# Altium footprint library PCB - LEADLESS - MLPAK - NEXPERIA MLPAK33 SOT8002-1.PCBLIB: 1 footprints
Each footprint in its own frame and in the unit in brackets; x right, y up, seen from the top. Pads: shape width x height; smd on the part's side, far side on the other; paste and mask are expansions set on the pad; w line width, h text height; cw(c..) or ccw(c..) is an arc to the next point about the centre after c.
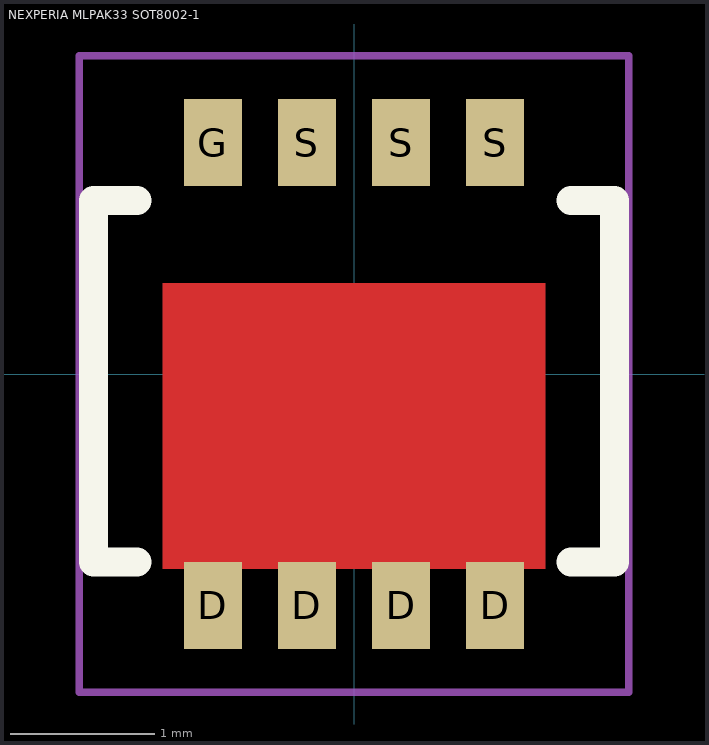
[diagram p0: the footprint, top view; thin cyan lines are the x and y axes]

## NEXPERIA MLPAK33 SOT8002-1 [mm]
height 0.9
pads (8):
  rect 0.4x0.6 smd: D(-0.975,-1.6) D(-0.325,-1.6) D(0.325,-1.6) D(0.975,-1.6) G(-0.975,1.6) S(-0.325,1.6) S(0.325,1.6) S(0.975,1.6)
Top Layer:
  region: 1.325,0.63 -1.325,0.63 -1.325,-1.35 1.325,-1.35
Top Overlay:
  lines w0.2: -1.5,-1.3 -1.8,-1.3 -1.8,1.2 -1.5,1.2 ; 1.5,-1.3 1.8,-1.3 1.8,1.2 1.5,1.2
Top Paste:
  region: 0.1,0.5 0.1,-0.2 1.05,-0.2 1.05,0.5
  region: -1.05,0.5 -1.05,-0.2 -0.1,-0.2 -0.1,0.5
  region: 0.1,-0.4 0.1,-1.1 1.05,-1.1 1.05,-0.4
  region: -1.05,-0.4 -1.05,-1.1 -0.1,-1.1 -0.1,-0.4
Mechanical 15:
  lines w0.05: -1.9,-2.2 1.9,-2.2 1.9,2.2 -1.9,2.2 -1.9,-2.2
  lines w0.1: -0.5,0 0.5,0 ; 0,-0.5 0,0.5
3D body "NEXPERIA - MLPAK33 SOT8002-1.step": height 0.9, standoff 0, extent -1.75,-1.75 1.75,1.75